# EAGLE library part PIN_HEADER_IO (library NordicSemi)
Fabricante: Harwin Categoría de producto: Alojamientos de cables y cabecera Tipo de producto: Headers - Pin Strip Serie: M50-360 Paso: 1.27 mm Número de posiciones / contactos: 10 Número de filas: 2 Estilo de montaje: SMD/SMT Ángulo de montaje: Vertical Estilo de terminación: Solder Revestimiento del contacto: Gold Cantidad de empaque de fábrica: 1000
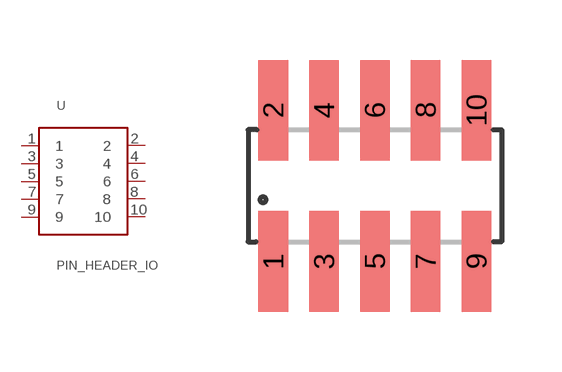
[diagram p3: symbol with the pads of M50-3600742; footprint M50-3600742]

Designator prefix -

## PIN_HEADER_IO  [M50-3600742]
1  1
2  2
3  3
4  4
5  5
6  6
7  7
8  8
9  9
10  10

## Footprint M50-3600742 (pad centres in mm)
smd 0.74 x 2.515: 1 -2.54,-1.893; 2 -2.54,1.893; 3 -1.27,-1.893; 4 -1.27,1.893; 5 0,-1.893; 6 0,1.893; 7 1.27,-1.893; 8 1.27,1.893; 9 2.54,-1.893; 10 2.54,1.893